# Altium integrated library WE-PD4_rev15a.intlib: 96 symbols
Pins are listed as number, name and electrical type; pins without a type are passive.

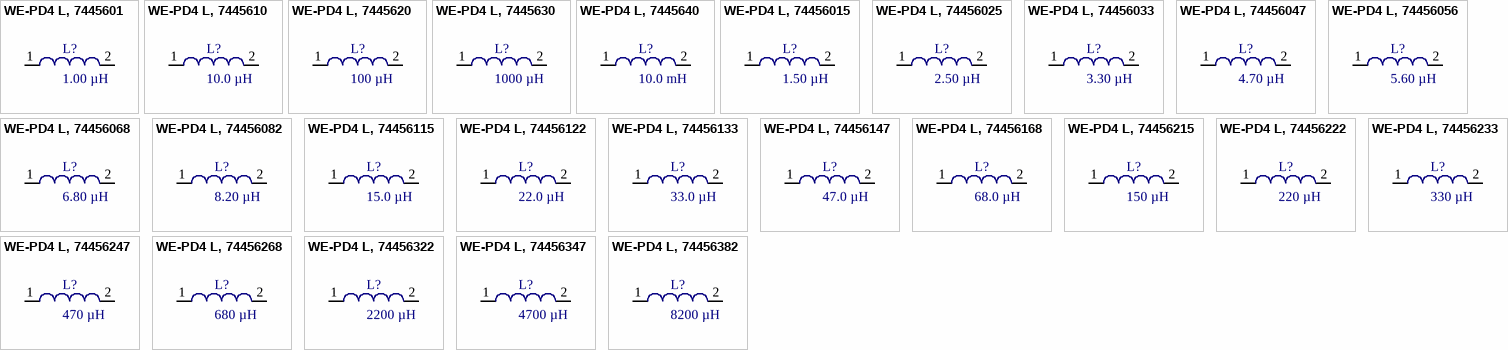
[diagram p0: symbols WE-PD4 L, 7445601 to WE-PD4 L, 74456382]

## WE-PD4 L, 7445601
designator L?, comment 1.00 µH
SMD-Power Inductor WE-PD4, L=1.00 µH; partNo: 7445601; Manufacturer: Würth Elektronik eiSos GmbH & Co.KG; Inductance: 1.00 µH; ComponentLink1Description: Manufacturer; ComponentLink1URL: http://www.we-online.de; Created by: Christin Zierenner; Created Date: July 2009; ComponentLink2Description: Datasheet; ComponentLink2URL: http://www.we-online.de/katalog/media/pdf/7445601.pdf
footprint WE-PD4 L (SMD Inductor, 2-Leads, Body 12,7x10,0mm)
pins: 1, 2

## WE-PD4 L, 7445610
designator L?, comment 10.0 µH
SMD-Power Inductor WE-PD4, L=10.0 µH; partNo: 7445610; Manufacturer: Würth Elektronik eiSos GmbH & Co.KG; Inductance: 10.0 µH; ComponentLink1Description: Manufacturer; ComponentLink1URL: http://www.we-online.de; Created by: Christin Zierenner; Created Date: July 2009; ComponentLink2Description: Datasheet; ComponentLink2URL: http://www.we-online.de/katalog/media/pdf/7445610.pdf
footprint WE-PD4 L (SMD Inductor, 2-Leads, Body 12,7x10,0mm)
pins: 1, 2

## WE-PD4 L, 7445620
designator L?, comment 100 µH
SMD-Power Inductor WE-PD4, L=100 µH; partNo: 7445620; Manufacturer: Würth Elektronik eiSos GmbH & Co.KG; Inductance: 100 µH; ComponentLink1Description: Manufacturer; ComponentLink1URL: http://www.we-online.de; Created by: Christin Zierenner; Created Date: July 2009; ComponentLink2Description: Datasheet; ComponentLink2URL: http://www.we-online.de/katalog/media/pdf/7445620.pdf
footprint WE-PD4 L (SMD Inductor, 2-Leads, Body 12,7x10,0mm)
pins: 1, 2

## WE-PD4 L, 7445630
designator L?, comment 1000 µH
SMD-Power Inductor WE-PD4, L=1000 µH; partNo: 7445630; Manufacturer: Würth Elektronik eiSos GmbH & Co.KG; Inductance: 1000 µH; ComponentLink1Description: Manufacturer; ComponentLink1URL: http://www.we-online.de; Created by: Christin Zierenner; Created Date: July 2009; ComponentLink2Description: Datasheet; ComponentLink2URL: http://www.we-online.de/katalog/media/pdf/7445630.pdf
footprint WE-PD4 L (SMD Inductor, 2-Leads, Body 12,7x10,0mm)
pins: 1, 2

## WE-PD4 L, 7445640
designator L?, comment 10.0 mH
SMD-Power Inductor WE-PD4, L=10.0 mH; partNo: 7445640; Manufacturer: Würth Elektronik eiSos GmbH & Co.KG; Inductance: 10.0 mH; ComponentLink1Description: Manufacturer; ComponentLink1URL: http://www.we-online.de; Created by: Christin Zierenner; Created Date: July 2009; ComponentLink2Description: Datasheet; ComponentLink2URL: http://www.we-online.de/katalog/media/pdf/7445640.pdf
footprint WE-PD4 L (SMD Inductor, 2-Leads, Body 12,7x10,0mm)
pins: 1, 2

## WE-PD4 L, 74456015
designator L?, comment 1.50 µH
SMD-Power Inductor WE-PD4, L=1.50 µH; partNo: 74456015; Manufacturer: Würth Elektronik eiSos GmbH & Co.KG; Inductance: 1.50 µH; ComponentLink1Description: Manufacturer; ComponentLink1URL: http://www.we-online.de; Created by: Christin Zierenner; Created Date: July 2009; ComponentLink2Description: Datasheet; ComponentLink2URL: http://www.we-online.de/katalog/media/pdf/74456015.pdf
footprint WE-PD4 L (SMD Inductor, 2-Leads, Body 12,7x10,0mm)
pins: 1, 2

## WE-PD4 L, 74456025
designator L?, comment 2.50 µH
SMD-Power Inductor WE-PD4, L=2.50 µH; partNo: 74456025; Manufacturer: Würth Elektronik eiSos GmbH & Co.KG; Inductance: 2.50 µH; ComponentLink1Description: Manufacturer; ComponentLink1URL: http://www.we-online.de; Created by: Christin Zierenner; Created Date: July 2009; ComponentLink2Description: Datasheet; ComponentLink2URL: http://www.we-online.de/katalog/media/pdf/74456025.pdf
footprint WE-PD4 L (SMD Inductor, 2-Leads, Body 12,7x10,0mm)
pins: 1, 2

## WE-PD4 L, 74456033
designator L?, comment 3.30 µH
SMD-Power Inductor WE-PD4, L=3.30 µH; partNo: 74456033; Manufacturer: Würth Elektronik eiSos GmbH & Co.KG; Inductance: 3.30 µH; ComponentLink1Description: Manufacturer; ComponentLink1URL: http://www.we-online.de; Created by: Christin Zierenner; Created Date: July 2009; ComponentLink2Description: Datasheet; ComponentLink2URL: http://www.we-online.de/katalog/media/pdf/74456033.pdf
footprint WE-PD4 L (SMD Inductor, 2-Leads, Body 12,7x10,0mm)
pins: 1, 2

## WE-PD4 L, 74456047
designator L?, comment 4.70 µH
SMD-Power Inductor WE-PD4, L=4.70 µH; partNo: 74456047; Manufacturer: Würth Elektronik eiSos GmbH & Co.KG; Inductance: 4.70 µH; ComponentLink1Description: Manufacturer; ComponentLink1URL: http://www.we-online.de; Created by: Christin Zierenner; Created Date: July 2009; ComponentLink2Description: Datasheet; ComponentLink2URL: http://www.we-online.de/katalog/media/pdf/74456047.pdf
footprint WE-PD4 L (SMD Inductor, 2-Leads, Body 12,7x10,0mm)
pins: 1, 2

## WE-PD4 L, 74456056
designator L?, comment 5.60 µH
SMD-Power Inductor WE-PD4, L=5.60 µH; partNo: 74456056; Manufacturer: Würth Elektronik eiSos GmbH & Co.KG; Inductance: 5.60 µH; ComponentLink1Description: Manufacturer; ComponentLink1URL: http://www.we-online.de; Created by: Christin Zierenner; Created Date: July 2009; ComponentLink2Description: Datasheet; ComponentLink2URL: http://www.we-online.de/katalog/media/pdf/74456056.pdf
footprint WE-PD4 L (SMD Inductor, 2-Leads, Body 12,7x10,0mm)
pins: 1, 2

## WE-PD4 L, 74456068
designator L?, comment 6.80 µH
SMD-Power Inductor WE-PD4, L=6.80 µH; partNo: 74456068; Manufacturer: Würth Elektronik eiSos GmbH & Co.KG; Inductance: 6.80 µH; ComponentLink1Description: Manufacturer; ComponentLink1URL: http://www.we-online.de; Created by: Christin Zierenner; Created Date: July 2009; ComponentLink2Description: Datasheet; ComponentLink2URL: http://www.we-online.de/katalog/media/pdf/74456068.pdf
footprint WE-PD4 L (SMD Inductor, 2-Leads, Body 12,7x10,0mm)
pins: 1, 2

## WE-PD4 L, 74456082
designator L?, comment 8.20 µH
SMD-Power Inductor WE-PD4, L=8.20 µH; partNo: 74456082; Manufacturer: Würth Elektronik eiSos GmbH & Co.KG; Inductance: 8.20 µH; ComponentLink1Description: Manufacturer; ComponentLink1URL: http://www.we-online.de; Created by: Christin Zierenner; Created Date: July 2009; ComponentLink2Description: Datasheet; ComponentLink2URL: http://www.we-online.de/katalog/media/pdf/74456082.pdf
footprint WE-PD4 L (SMD Inductor, 2-Leads, Body 12,7x10,0mm)
pins: 1, 2

## WE-PD4 L, 74456115
designator L?, comment 15.0 µH
SMD-Power Inductor WE-PD4, L=15.0 µH; partNo: 74456115; Manufacturer: Würth Elektronik eiSos GmbH & Co.KG; Inductance: 15.0 µH; ComponentLink1Description: Manufacturer; ComponentLink1URL: http://www.we-online.de; Created by: Christin Zierenner; Created Date: July 2009; ComponentLink2Description: Datasheet; ComponentLink2URL: http://www.we-online.de/katalog/media/pdf/74456115.pdf
footprint WE-PD4 L (SMD Inductor, 2-Leads, Body 12,7x10,0mm)
pins: 1, 2

## WE-PD4 L, 74456122
designator L?, comment 22.0 µH
SMD-Power Inductor WE-PD4, L=22.0 µH; partNo: 74456122; Manufacturer: Würth Elektronik eiSos GmbH & Co.KG; Inductance: 22.0 µH; ComponentLink1Description: Manufacturer; ComponentLink1URL: http://www.we-online.de; Created by: Christin Zierenner; Created Date: July 2009; ComponentLink2Description: Datasheet; ComponentLink2URL: http://www.we-online.de/katalog/media/pdf/74456122.pdf
footprint WE-PD4 L (SMD Inductor, 2-Leads, Body 12,7x10,0mm)
pins: 1, 2

## WE-PD4 L, 74456133
designator L?, comment 33.0 µH
SMD-Power Inductor WE-PD4, L=33.0 µH; partNo: 74456133; Manufacturer: Würth Elektronik eiSos GmbH & Co.KG; Inductance: 33.0 µH; ComponentLink1Description: Manufacturer; ComponentLink1URL: http://www.we-online.de; Created by: Christin Zierenner; Created Date: July 2009; ComponentLink2Description: Datasheet; ComponentLink2URL: http://www.we-online.de/katalog/media/pdf/74456133.pdf
footprint WE-PD4 L (SMD Inductor, 2-Leads, Body 12,7x10,0mm)
pins: 1, 2

## WE-PD4 L, 74456147
designator L?, comment 47.0 µH
SMD-Power Inductor WE-PD4, L=47.0 µH; partNo: 74456147; Manufacturer: Würth Elektronik eiSos GmbH & Co.KG; Inductance: 47.0 µH; ComponentLink1Description: Manufacturer; ComponentLink1URL: http://www.we-online.de; Created by: Christin Zierenner; Created Date: July 2009; ComponentLink2Description: Datasheet; ComponentLink2URL: http://www.we-online.de/katalog/media/pdf/74456147.pdf
footprint WE-PD4 L (SMD Inductor, 2-Leads, Body 12,7x10,0mm)
pins: 1, 2

## WE-PD4 L, 74456168
designator L?, comment 68.0 µH
SMD-Power Inductor WE-PD4, L=68.0 µH; partNo: 74456168; Manufacturer: Würth Elektronik eiSos GmbH & Co.KG; Inductance: 68.0 µH; ComponentLink1Description: Manufacturer; ComponentLink1URL: http://www.we-online.de; Created by: Christin Zierenner; Created Date: July 2009; ComponentLink2Description: Datasheet; ComponentLink2URL: http://www.we-online.de/katalog/media/pdf/74456168.pdf
footprint WE-PD4 L (SMD Inductor, 2-Leads, Body 12,7x10,0mm)
pins: 1, 2

## WE-PD4 L, 74456215
designator L?, comment 150 µH
SMD-Power Inductor WE-PD4, L=150 µH; partNo: 74456215; Manufacturer: Würth Elektronik eiSos GmbH & Co.KG; Inductance: 150 µH; ComponentLink1Description: Manufacturer; ComponentLink1URL: http://www.we-online.de; Created by: Christin Zierenner; Created Date: July 2009; ComponentLink2Description: Datasheet; ComponentLink2URL: http://www.we-online.de/katalog/media/pdf/74456215.pdf
footprint WE-PD4 L (SMD Inductor, 2-Leads, Body 12,7x10,0mm)
pins: 1, 2

## WE-PD4 L, 74456222
designator L?, comment 220 µH
SMD-Power Inductor WE-PD4, L=220 µH; partNo: 74456222; Manufacturer: Würth Elektronik eiSos GmbH & Co.KG; Inductance: 220 µH; ComponentLink1Description: Manufacturer; ComponentLink1URL: http://www.we-online.de; Created by: Christin Zierenner; Created Date: July 2009; ComponentLink2Description: Datasheet; ComponentLink2URL: http://www.we-online.de/katalog/media/pdf/74456222.pdf
footprint WE-PD4 L (SMD Inductor, 2-Leads, Body 12,7x10,0mm)
pins: 1, 2

## WE-PD4 L, 74456233
designator L?, comment 330 µH
SMD-Power Inductor WE-PD4, L=330 µH; partNo: 74456233; Manufacturer: Würth Elektronik eiSos GmbH & Co.KG; Inductance: 330 µH; ComponentLink1Description: Manufacturer; ComponentLink1URL: http://www.we-online.de; Created by: Christin Zierenner; Created Date: July 2009; ComponentLink2Description: Datasheet; ComponentLink2URL: http://www.we-online.de/katalog/media/pdf/74456233.pdf
footprint WE-PD4 L (SMD Inductor, 2-Leads, Body 12,7x10,0mm)
pins: 1, 2

## WE-PD4 L, 74456247
designator L?, comment 470 µH
SMD-Power Inductor WE-PD4, L=470 µH; partNo: 74456247; Manufacturer: Würth Elektronik eiSos GmbH & Co.KG; Inductance: 470 µH; ComponentLink1Description: Manufacturer; ComponentLink1URL: http://www.we-online.de; Created by: Christin Zierenner; Created Date: July 2009; ComponentLink2Description: Datasheet; ComponentLink2URL: http://www.we-online.de/katalog/media/pdf/74456247.pdf
footprint WE-PD4 L (SMD Inductor, 2-Leads, Body 12,7x10,0mm)
pins: 1, 2

## WE-PD4 L, 74456268
designator L?, comment 680 µH
SMD-Power Inductor WE-PD4, L=680 µH; partNo: 74456268; Manufacturer: Würth Elektronik eiSos GmbH & Co.KG; Inductance: 680 µH; ComponentLink1Description: Manufacturer; ComponentLink1URL: http://www.we-online.de; Created by: Christin Zierenner; Created Date: July 2009; ComponentLink2Description: Datasheet; ComponentLink2URL: http://www.we-online.de/katalog/media/pdf/74456268.pdf
footprint WE-PD4 L (SMD Inductor, 2-Leads, Body 12,7x10,0mm)
pins: 1, 2

## WE-PD4 L, 74456322
designator L?, comment 2200 µH
SMD-Power Inductor WE-PD4, L=2200 µH; partNo: 74456322; Manufacturer: Würth Elektronik eiSos GmbH & Co.KG; Inductance: 2200 µH; ComponentLink1Description: Manufacturer; ComponentLink1URL: http://www.we-online.de; Created by: Christin Zierenner; Created Date: July 2009; ComponentLink2Description: Datasheet; ComponentLink2URL: http://www.we-online.de/katalog/media/pdf/74456322.pdf
footprint WE-PD4 L (SMD Inductor, 2-Leads, Body 12,7x10,0mm)
pins: 1, 2

## WE-PD4 L, 74456347
designator L?, comment 4700 µH
SMD-Power Inductor WE-PD4, L=4700 µH; partNo: 74456347; Manufacturer: Würth Elektronik eiSos GmbH & Co.KG; Inductance: 4700 µH; ComponentLink1Description: Manufacturer; ComponentLink1URL: http://www.we-online.de; Created by: Christin Zierenner; Created Date: July 2009; ComponentLink2Description: Datasheet; ComponentLink2URL: http://www.we-online.de/katalog/media/pdf/74456347.pdf
footprint WE-PD4 L (SMD Inductor, 2-Leads, Body 12,7x10,0mm)
pins: 1, 2

## WE-PD4 L, 74456382
designator L?, comment 8200 µH
SMD-Power Inductor WE-PD4, L=8200 µH; partNo: 74456382; Manufacturer: Würth Elektronik eiSos GmbH & Co.KG; Inductance: 8200 µH; ComponentLink1Description: Manufacturer; ComponentLink1URL: http://www.we-online.de; Created by: Christin Zierenner; Created Date: July 2009; ComponentLink2Description: Datasheet; ComponentLink2URL: http://www.we-online.de/katalog/media/pdf/74456382.pdf
footprint WE-PD4 L (SMD Inductor, 2-Leads, Body 12,7x10,0mm)
pins: 1, 2


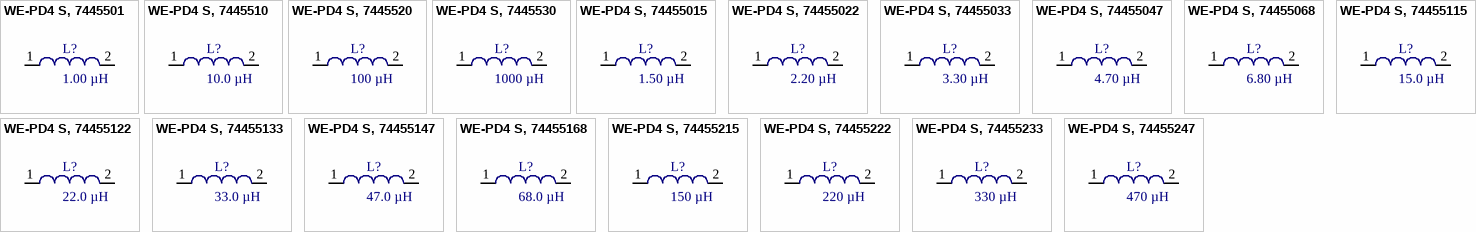
[diagram p1: symbols WE-PD4 S, 7445501 to WE-PD4 S, 74455247]

## WE-PD4 S, 7445501
designator L?, comment 1.00 µH
SMD-Power Inductor WE-PD4, L=1.00 µH; partNo: 7445501; Manufacturer: Würth Elektronik eiSos GmbH & Co.KG; Inductance: 1.00 µH; ComponentLink1Description: Manufacturer; ComponentLink1URL: http://www.we-online.de; Created by: Christin Zierenner; Created Date: July 2009; ComponentLink2Description: Datasheet; ComponentLink2URL: http://www.we-online.de/katalog/media/pdf/7445501.pdf
footprint WE-PD4 S (SMD Inductor, 2-Leads, Body 6,6x4,4mm,)
pins: 1, 2

## WE-PD4 S, 7445510
designator L?, comment 10.0 µH
SMD-Power Inductor WE-PD4, L=10.0 µH; partNo: 7445510; Manufacturer: Würth Elektronik eiSos GmbH & Co.KG; Inductance: 10.0 µH; ComponentLink1Description: Manufacturer; ComponentLink1URL: http://www.we-online.de; Created by: Christin Zierenner; Created Date: July 2009; ComponentLink2Description: Datasheet; ComponentLink2URL: http://www.we-online.de/katalog/media/pdf/7445510.pdf
footprint WE-PD4 S (SMD Inductor, 2-Leads, Body 6,6x4,4mm,)
pins: 1, 2

## WE-PD4 S, 7445520
designator L?, comment 100 µH
SMD-Power Inductor WE-PD4, L=100 µH; partNo: 7445520; Manufacturer: Würth Elektronik eiSos GmbH & Co.KG; Inductance: 100 µH; ComponentLink1Description: Manufacturer; ComponentLink1URL: http://www.we-online.de; Created by: Christin Zierenner; Created Date: July 2009; ComponentLink2Description: Datasheet; ComponentLink2URL: http://www.we-online.de/katalog/media/pdf/7445520.pdf
footprint WE-PD4 S (SMD Inductor, 2-Leads, Body 6,6x4,4mm,)
pins: 1, 2

## WE-PD4 S, 7445530
designator L?, comment 1000 µH
SMD-Power Inductor WE-PD4, L=1000 µH; partNo: 7445530; Manufacturer: Würth Elektronik eiSos GmbH & Co.KG; Inductance: 1000 µH; ComponentLink1Description: Manufacturer; ComponentLink1URL: http://www.we-online.de; Created by: Christin Zierenner; Created Date: July 2009; ComponentLink2Description: Datasheet; ComponentLink2URL: http://www.we-online.de/katalog/media/pdf/7445530.pdf
footprint WE-PD4 S (SMD Inductor, 2-Leads, Body 6,6x4,4mm,)
pins: 1, 2

## WE-PD4 S, 74455015
designator L?, comment 1.50 µH
SMD-Power Inductor WE-PD4, L=1.50 µH; partNo: 74455015; Manufacturer: Würth Elektronik eiSos GmbH & Co.KG; Inductance: 1.50 µH; ComponentLink1Description: Manufacturer; ComponentLink1URL: http://www.we-online.de; Created by: Christin Zierenner; Created Date: July 2009; ComponentLink2Description: Datasheet; ComponentLink2URL: http://www.we-online.de/katalog/media/pdf/74455015.pdf
footprint WE-PD4 S (SMD Inductor, 2-Leads, Body 6,6x4,4mm,)
pins: 1, 2

## WE-PD4 S, 74455022
designator L?, comment 2.20 µH
SMD-Power Inductor WE-PD4, L=2.20 µH; partNo: 74455022; Manufacturer: Würth Elektronik eiSos GmbH & Co.KG; Inductance: 2.20 µH; ComponentLink1Description: Manufacturer; ComponentLink1URL: http://www.we-online.de; Created by: Christin Zierenner; Created Date: July 2009; ComponentLink2Description: Datasheet; ComponentLink2URL: http://www.we-online.de/katalog/media/pdf/74455022.pdf
footprint WE-PD4 S (SMD Inductor, 2-Leads, Body 6,6x4,4mm,)
pins: 1, 2

## WE-PD4 S, 74455033
designator L?, comment 3.30 µH
SMD-Power Inductor WE-PD4, L=3.30 µH; partNo: 74455033; Manufacturer: Würth Elektronik eiSos GmbH & Co.KG; Inductance: 3.30 µH; ComponentLink1Description: Manufacturer; ComponentLink1URL: http://www.we-online.de; Created by: Christin Zierenner; Created Date: July 2009; ComponentLink2Description: Datasheet; ComponentLink2URL: http://www.we-online.de/katalog/media/pdf/74455033.pdf
footprint WE-PD4 S (SMD Inductor, 2-Leads, Body 6,6x4,4mm,)
pins: 1, 2

## WE-PD4 S, 74455047
designator L?, comment 4.70 µH
SMD-Power Inductor WE-PD4, L=4.70 µH; partNo: 74455047; Manufacturer: Würth Elektronik eiSos GmbH & Co.KG; Inductance: 4.70 µH; ComponentLink1Description: Manufacturer; ComponentLink1URL: http://www.we-online.de; Created by: Christin Zierenner; Created Date: July 2009; ComponentLink2Description: Datasheet; ComponentLink2URL: http://www.we-online.de/katalog/media/pdf/74455047.pdf
footprint WE-PD4 S (SMD Inductor, 2-Leads, Body 6,6x4,4mm,)
pins: 1, 2

## WE-PD4 S, 74455068
designator L?, comment 6.80 µH
SMD-Power Inductor WE-PD4, L=6.80 µH; partNo: 74455068; Manufacturer: Würth Elektronik eiSos GmbH & Co.KG; Inductance: 6.80 µH; ComponentLink1Description: Manufacturer; ComponentLink1URL: http://www.we-online.de; Created by: Christin Zierenner; Created Date: July 2009; ComponentLink2Description: Datasheet; ComponentLink2URL: http://www.we-online.de/katalog/media/pdf/74455068.pdf
footprint WE-PD4 S (SMD Inductor, 2-Leads, Body 6,6x4,4mm,)
pins: 1, 2

## WE-PD4 S, 74455115
designator L?, comment 15.0 µH
SMD-Power Inductor WE-PD4, L=15.0 µH; partNo: 74455115; Manufacturer: Würth Elektronik eiSos GmbH & Co.KG; Inductance: 15.0 µH; ComponentLink1Description: Manufacturer; ComponentLink1URL: http://www.we-online.de; Created by: Christin Zierenner; Created Date: July 2009; ComponentLink2Description: Datasheet; ComponentLink2URL: http://www.we-online.de/katalog/media/pdf/74455115.pdf
footprint WE-PD4 S (SMD Inductor, 2-Leads, Body 6,6x4,4mm,)
pins: 1, 2

## WE-PD4 S, 74455122
designator L?, comment 22.0 µH
SMD-Power Inductor WE-PD4, L=22.0 µH; partNo: 74455122; Manufacturer: Würth Elektronik eiSos GmbH & Co.KG; Inductance: 22.0 µH; ComponentLink1Description: Manufacturer; ComponentLink1URL: http://www.we-online.de; Created by: Christin Zierenner; Created Date: July 2009; ComponentLink2Description: Datasheet; ComponentLink2URL: http://www.we-online.de/katalog/media/pdf/74455122.pdf
footprint WE-PD4 S (SMD Inductor, 2-Leads, Body 6,6x4,4mm,)
pins: 1, 2

## WE-PD4 S, 74455133
designator L?, comment 33.0 µH
SMD-Power Inductor WE-PD4, L=33.0 µH; partNo: 74455133; Manufacturer: Würth Elektronik eiSos GmbH & Co.KG; Inductance: 33.0 µH; ComponentLink1Description: Manufacturer; ComponentLink1URL: http://www.we-online.de; Created by: Christin Zierenner; Created Date: July 2009; ComponentLink2Description: Datasheet; ComponentLink2URL: http://www.we-online.de/katalog/media/pdf/74455133.pdf
footprint WE-PD4 S (SMD Inductor, 2-Leads, Body 6,6x4,4mm,)
pins: 1, 2

## WE-PD4 S, 74455147
designator L?, comment 47.0 µH
SMD-Power Inductor WE-PD4, L=47.0 µH; partNo: 74455147; Manufacturer: Würth Elektronik eiSos GmbH & Co.KG; Inductance: 47.0 µH; ComponentLink1Description: Manufacturer; ComponentLink1URL: http://www.we-online.de; Created by: Christin Zierenner; Created Date: July 2009; ComponentLink2Description: Datasheet; ComponentLink2URL: http://www.we-online.de/katalog/media/pdf/74455147.pdf
footprint WE-PD4 S (SMD Inductor, 2-Leads, Body 6,6x4,4mm,)
pins: 1, 2

## WE-PD4 S, 74455168
designator L?, comment 68.0 µH
SMD-Power Inductor WE-PD4, L=68.0 µH; partNo: 74455168; Manufacturer: Würth Elektronik eiSos GmbH & Co.KG; Inductance: 68.0 µH; ComponentLink1Description: Manufacturer; ComponentLink1URL: http://www.we-online.de; Created by: Christin Zierenner; Created Date: July 2009; ComponentLink2Description: Datasheet; ComponentLink2URL: http://www.we-online.de/katalog/media/pdf/74455168.pdf
footprint WE-PD4 S (SMD Inductor, 2-Leads, Body 6,6x4,4mm,)
pins: 1, 2

## WE-PD4 S, 74455215
designator L?, comment 150 µH
SMD-Power Inductor WE-PD4, L=150 µH; partNo: 74455215; Manufacturer: Würth Elektronik eiSos GmbH & Co.KG; Inductance: 150 µH; ComponentLink1Description: Manufacturer; ComponentLink1URL: http://www.we-online.de; Created by: Christin Zierenner; Created Date: July 2009; ComponentLink2Description: Datasheet; ComponentLink2URL: http://www.we-online.de/katalog/media/pdf/74455215.pdf
footprint WE-PD4 S (SMD Inductor, 2-Leads, Body 6,6x4,4mm,)
pins: 1, 2

## WE-PD4 S, 74455222
designator L?, comment 220 µH
SMD-Power Inductor WE-PD4, L=220 µH; partNo: 74455222; Manufacturer: Würth Elektronik eiSos GmbH & Co.KG; Inductance: 220 µH; ComponentLink1Description: Manufacturer; ComponentLink1URL: http://www.we-online.de; Created by: Christin Zierenner; Created Date: July 2009; ComponentLink2Description: Datasheet; ComponentLink2URL: http://www.we-online.de/katalog/media/pdf/74455222.pdf
footprint WE-PD4 S (SMD Inductor, 2-Leads, Body 6,6x4,4mm,)
pins: 1, 2

## WE-PD4 S, 74455233
designator L?, comment 330 µH
SMD-Power Inductor WE-PD4, L=330 µH; partNo: 74455233; Manufacturer: Würth Elektronik eiSos GmbH & Co.KG; Inductance: 330 µH; ComponentLink1Description: Manufacturer; ComponentLink1URL: http://www.we-online.de; Created by: Christin Zierenner; Created Date: July 2009; ComponentLink2Description: Datasheet; ComponentLink2URL: http://www.we-online.de/katalog/media/pdf/74455233.pdf
footprint WE-PD4 S (SMD Inductor, 2-Leads, Body 6,6x4,4mm,)
pins: 1, 2

## WE-PD4 S, 74455247
designator L?, comment 470 µH
SMD-Power Inductor WE-PD4, L=470 µH; partNo: 74455247; Manufacturer: Würth Elektronik eiSos GmbH & Co.KG; Inductance: 470 µH; ComponentLink1Description: Manufacturer; ComponentLink1URL: http://www.we-online.de; Created by: Christin Zierenner; Created Date: July 2009; ComponentLink2Description: Datasheet; ComponentLink2URL: http://www.we-online.de/katalog/media/pdf/74455247.pdf
footprint WE-PD4 S (SMD Inductor, 2-Leads, Body 6,6x4,4mm,)
pins: 1, 2


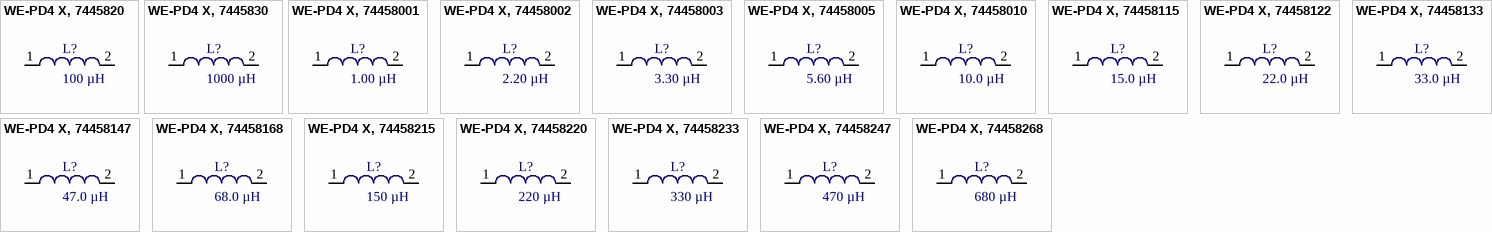
[diagram p2: symbols WE-PD4 X, 7445820 to WE-PD4 X, 74458268]

## WE-PD4 X, 7445820
designator L?, comment 100 µH
SMD-Power Inductor WE-PD4, L=100 µH; partNo: 7445820; Manufacturer: Würth Elektronik eiSos GmbH & Co.KG; Inductance: 100 µH; ComponentLink1Description: Manufacturer; ComponentLink1URL: http://www.we-online.de; Created by: Christin Zierenner; Created Date: June 2009; ComponentLink2Description: Datasheet; ComponentLink2URL: http://www.we-online.de/katalog/media/pdf/7445820.pdf
footprint WE-PD4 X (Inductor, 2-Leads, Body 18,5x15,2mm)
pins: 1, 2

## WE-PD4 X, 7445830
designator L?, comment 1000 µH
SMD-Power Inductor WE-PD4, L=1000 µH; partNo: 7445830; Manufacturer: Würth Elektronik eiSos GmbH & Co.KG; Inductance: 1000 µH; ComponentLink1Description: Manufacturer; ComponentLink1URL: http://www.we-online.de; Created by: Christin Zierenner; Created Date: June 2009; ComponentLink2Description: Datasheet; ComponentLink2URL: http://www.we-online.de/katalog/media/pdf/7445830.pdf
footprint WE-PD4 X (Inductor, 2-Leads, Body 18,5x15,2mm)
pins: 1, 2

## WE-PD4 X, 74458001
designator L?, comment 1.00 µH
SMD-Power Inductor WE-PD4, L=1.00 µH; partNo: 74458001; Manufacturer: Würth Elektronik eiSos GmbH & Co.KG; Inductance: 1.00 µH; ComponentLink1Description: Manufacturer; ComponentLink1URL: http://www.we-online.de; Created by: Christin Zierenner; Created Date: June 2009; ComponentLink2Description: Datasheet; ComponentLink2URL: http://www.we-online.de/katalog/media/pdf/74458001.pdf
footprint WE-PD4 X (Inductor, 2-Leads, Body 18,5x15,2mm)
pins: 1, 2

## WE-PD4 X, 74458002
designator L?, comment 2.20 µH
SMD-Power Inductor WE-PD4, L=2.20 µH; partNo: 74458002; Manufacturer: Würth Elektronik eiSos GmbH & Co.KG; Inductance: 2.20 µH; ComponentLink1Description: Manufacturer; ComponentLink1URL: http://www.we-online.de; Created by: Christin Zierenner; Created Date: June 2009; ComponentLink2Description: Datasheet; ComponentLink2URL: http://www.we-online.de/katalog/media/pdf/74458002.pdf
footprint WE-PD4 X (Inductor, 2-Leads, Body 18,5x15,2mm)
pins: 1, 2

## WE-PD4 X, 74458003
designator L?, comment 3.30 µH
SMD-Power Inductor WE-PD4, L=3.30 µH; partNo: 74458003; Manufacturer: Würth Elektronik eiSos GmbH & Co.KG; Inductance: 3.30 µH; ComponentLink1Description: Manufacturer; ComponentLink1URL: http://www.we-online.de; Created by: Christin Zierenner; Created Date: June 2009; ComponentLink2Description: Datasheet; ComponentLink2URL: http://www.we-online.de/katalog/media/pdf/74458003.pdf
footprint WE-PD4 X (Inductor, 2-Leads, Body 18,5x15,2mm)
pins: 1, 2

## WE-PD4 X, 74458005
designator L?, comment 5.60 µH
SMD-Power Inductor WE-PD4, L=5.60 µH; partNo: 74458005; Manufacturer: Würth Elektronik eiSos GmbH & Co.KG; Inductance: 5.60 µH; ComponentLink1Description: Manufacturer; ComponentLink1URL: http://www.we-online.de; Created by: Christin Zierenner; Created Date: June 2009; ComponentLink2Description: Datasheet; ComponentLink2URL: http://www.we-online.de/katalog/media/pdf/74458005.pdf
footprint WE-PD4 X (Inductor, 2-Leads, Body 18,5x15,2mm)
pins: 1, 2

## WE-PD4 X, 74458010
designator L?, comment 10.0 µH
SMD-Power Inductor WE-PD4, L=10.0 µH; partNo: 74458010; Manufacturer: Würth Elektronik eiSos GmbH & Co.KG; Inductance: 10.0 µH; ComponentLink1Description: Manufacturer; ComponentLink1URL: http://www.we-online.de; Created by: Christin Zierenner; Created Date: June 2009; ComponentLink2Description: Datasheet; ComponentLink2URL: http://www.we-online.de/katalog/media/pdf/74458010.pdf
footprint WE-PD4 X (Inductor, 2-Leads, Body 18,5x15,2mm)
pins: 1, 2

## WE-PD4 X, 74458115
designator L?, comment 15.0 µH
SMD-Power Inductor WE-PD4, L=15.0 µH; partNo: 74458115; Manufacturer: Würth Elektronik eiSos GmbH & Co.KG; Inductance: 15.0 µH; ComponentLink1Description: Manufacturer; ComponentLink1URL: http://www.we-online.de; Created by: Christin Zierenner; Created Date: June 2009; ComponentLink2Description: Datasheet; ComponentLink2URL: http://www.we-online.de/katalog/media/pdf/74458115.pdf
footprint WE-PD4 X (Inductor, 2-Leads, Body 18,5x15,2mm)
pins: 1, 2

## WE-PD4 X, 74458122
designator L?, comment 22.0 µH
SMD-Power Inductor WE-PD4, L=22.0 µH; partNo: 74458122; Manufacturer: Würth Elektronik eiSos GmbH & Co.KG; Inductance: 22.0 µH; ComponentLink1Description: Manufacturer; ComponentLink1URL: http://www.we-online.de; Created by: Christin Zierenner; Created Date: June 2009; ComponentLink2Description: Datasheet; ComponentLink2URL: http://www.we-online.de/katalog/media/pdf/74458122.pdf
footprint WE-PD4 X (Inductor, 2-Leads, Body 18,5x15,2mm)
pins: 1, 2

## WE-PD4 X, 74458133
designator L?, comment 33.0 µH
SMD-Power Inductor WE-PD4, L=33.0 µH; partNo: 74458133; Manufacturer: Würth Elektronik eiSos GmbH & Co.KG; Inductance: 33.0 µH; ComponentLink1Description: Manufacturer; ComponentLink1URL: http://www.we-online.de; Created by: Christin Zierenner; Created Date: June 2009; ComponentLink2Description: Datasheet; ComponentLink2URL: http://www.we-online.de/katalog/media/pdf/74458133.pdf
footprint WE-PD4 X (Inductor, 2-Leads, Body 18,5x15,2mm)
pins: 1, 2

## WE-PD4 X, 74458147
designator L?, comment 47.0 µH
SMD-Power Inductor WE-PD4, L=47.0 µH; partNo: 74458147; Manufacturer: Würth Elektronik eiSos GmbH & Co.KG; Inductance: 47.0 µH; ComponentLink1Description: Manufacturer; ComponentLink1URL: http://www.we-online.de; Created by: Christin Zierenner; Created Date: June 2009; ComponentLink2Description: Datasheet; ComponentLink2URL: http://www.we-online.de/katalog/media/pdf/74458147.pdf
footprint WE-PD4 X (Inductor, 2-Leads, Body 18,5x15,2mm)
pins: 1, 2

## WE-PD4 X, 74458168
designator L?, comment 68.0 µH
SMD-Power Inductor WE-PD4, L=68.0 µH; partNo: 74458168; Manufacturer: Würth Elektronik eiSos GmbH & Co.KG; Inductance: 68.0 µH; ComponentLink1Description: Manufacturer; ComponentLink1URL: http://www.we-online.de; Created by: Christin Zierenner; Created Date: June 2009; ComponentLink2Description: Datasheet; ComponentLink2URL: http://www.we-online.de/katalog/media/pdf/74458168.pdf
footprint WE-PD4 X (Inductor, 2-Leads, Body 18,5x15,2mm)
pins: 1, 2

## WE-PD4 X, 74458215
designator L?, comment 150 µH
SMD-Power Inductor WE-PD4, L=150 µH; partNo: 74458215; Manufacturer: Würth Elektronik eiSos GmbH & Co.KG; Inductance: 150 µH; ComponentLink1Description: Manufacturer; ComponentLink1URL: http://www.we-online.de; Created by: Christin Zierenner; Created Date: June 2009; ComponentLink2Description: Datasheet; ComponentLink2URL: http://www.we-online.de/katalog/media/pdf/74458215.pdf
footprint WE-PD4 X (Inductor, 2-Leads, Body 18,5x15,2mm)
pins: 1, 2

## WE-PD4 X, 74458220
designator L?, comment 220 µH
SMD-Power Inductor WE-PD4, L=220 µH; partNo: 74458220; Manufacturer: Würth Elektronik eiSos GmbH & Co.KG; Inductance: 220 µH; ComponentLink1Description: Manufacturer; ComponentLink1URL: http://www.we-online.de; Created by: Christin Zierenner; Created Date: June 2009; ComponentLink2Description: Datasheet; ComponentLink2URL: http://www.we-online.de/katalog/media/pdf/74458220.pdf
footprint WE-PD4 X (Inductor, 2-Leads, Body 18,5x15,2mm)
pins: 1, 2

## WE-PD4 X, 74458233
designator L?, comment 330 µH
SMD-Power Inductor WE-PD4, L=330 µH; partNo: 74458233; Manufacturer: Würth Elektronik eiSos GmbH & Co.KG; Inductance: 330 µH; ComponentLink1Description: Manufacturer; ComponentLink1URL: http://www.we-online.de; Created by: Christin Zierenner; Created Date: June 2009; ComponentLink2Description: Datasheet; ComponentLink2URL: http://www.we-online.de/katalog/media/pdf/74458233.pdf
footprint WE-PD4 X (Inductor, 2-Leads, Body 18,5x15,2mm)
pins: 1, 2

## WE-PD4 X, 74458247
designator L?, comment 470 µH
SMD-Power Inductor WE-PD4, L=470 µH; partNo: 74458247; Manufacturer: Würth Elektronik eiSos GmbH & Co.KG; Inductance: 470 µH; ComponentLink1Description: Manufacturer; ComponentLink1URL: http://www.we-online.de; Created by: Christin Zierenner; Created Date: June 2009; ComponentLink2Description: Datasheet; ComponentLink2URL: http://www.we-online.de/katalog/media/pdf/74458247.pdf
footprint WE-PD4 X (Inductor, 2-Leads, Body 18,5x15,2mm)
pins: 1, 2

## WE-PD4 X, 74458268
designator L?, comment 680 µH
SMD-Power Inductor WE-PD4, L=680 µH; partNo: 74458268; Manufacturer: Würth Elektronik eiSos GmbH & Co.KG; Inductance: 680 µH; ComponentLink1Description: Manufacturer; ComponentLink1URL: http://www.we-online.de; Created by: Christin Zierenner; Created Date: June 2009; ComponentLink2Description: Datasheet; ComponentLink2URL: http://www.we-online.de/katalog/media/pdf/74458268.pdf
footprint WE-PD4 X (Inductor, 2-Leads, Body 18,5x15,2mm)
pins: 1, 2


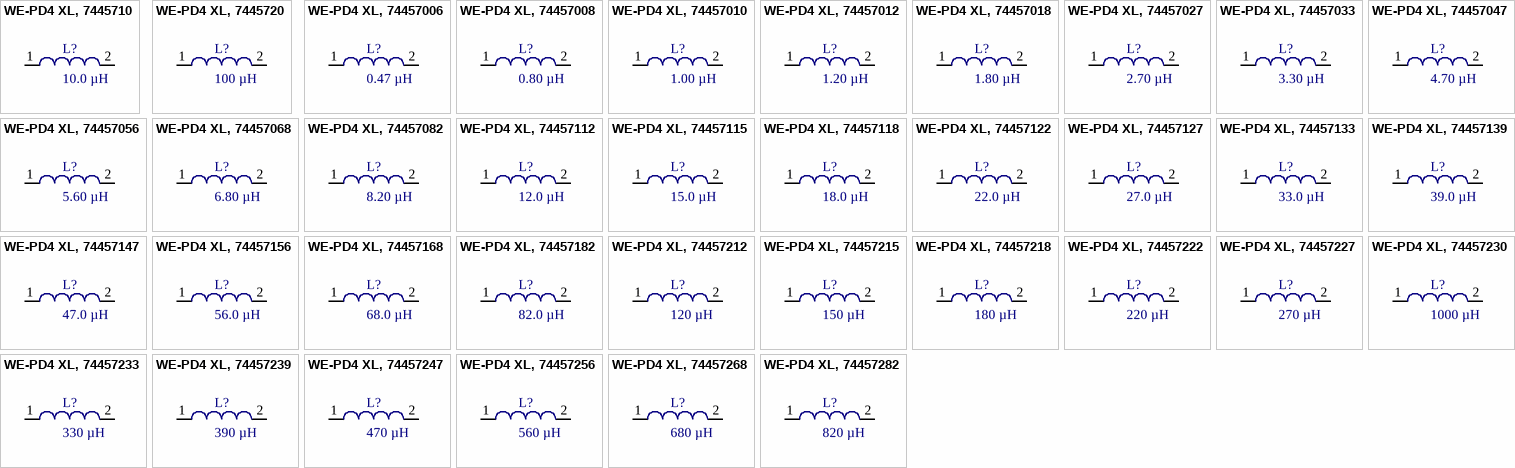
[diagram p3: symbols WE-PD4 XL, 7445710 to WE-PD4 XL, 74457282]

## WE-PD4 XL, 7445710
designator L?, comment 10.0 µH
SMD-Power Inductor WE-PD4, L=10.0 µH; partNo: 7445710; Manufacturer: Würth Elektronik eiSos GmbH & Co.KG; Inductance: 10.0 µH; ComponentLink1Description: Manufacturer; ComponentLink1URL: http://www.we-online.de; Created by: Christin Zierenner; Created Date: June 2009; ComponentLink2Description: Datasheet; ComponentLink2URL: http://www.we-online.de/katalog/media/pdf/7445710.pdf
footprint WE-PD4 XL (Inductor, 2-Leads, Body 22,0x15,0mm)
pins: 1, 2

## WE-PD4 XL, 7445720
designator L?, comment 100 µH
SMD-Power Inductor WE-PD4, L=100 µH; partNo: 7445720; Manufacturer: Würth Elektronik eiSos GmbH & Co.KG; Inductance: 100 µH; ComponentLink1Description: Manufacturer; ComponentLink1URL: http://www.we-online.de; Created by: Christin Zierenner; Created Date: June 2009; ComponentLink2Description: Datasheet; ComponentLink2URL: http://www.we-online.de/katalog/media/pdf/7445720.pdf
footprint WE-PD4 XL (Inductor, 2-Leads, Body 22,0x15,0mm)
pins: 1, 2

## WE-PD4 XL, 74457006
designator L?, comment 0.47 µH
SMD-Power Inductor WE-PD4, L=0.47 µH; partNo: 74457006; Manufacturer: Würth Elektronik eiSos GmbH & Co.KG; Inductance: 0.47 µH; ComponentLink1Description: Manufacturer; ComponentLink1URL: http://www.we-online.de; Created by: Christin Zierenner; Created Date: June 2009; ComponentLink2Description: Datasheet; ComponentLink2URL: http://www.we-online.de/katalog/media/pdf/74457006.pdf
footprint WE-PD4 XL (Inductor, 2-Leads, Body 22,0x15,0mm)
pins: 1, 2

## WE-PD4 XL, 74457008
designator L?, comment 0.80 µH
SMD-Power Inductor WE-PD4, L=0.80 µH; partNo: 74457008; Manufacturer: Würth Elektronik eiSos GmbH & Co.KG; Inductance: 0.80 µH; ComponentLink1Description: Manufacturer; ComponentLink1URL: http://www.we-online.de; Created by: Christin Zierenner; Created Date: June 2009; ComponentLink2Description: Datasheet; ComponentLink2URL: http://www.we-online.de/katalog/media/pdf/74457008.pdf
footprint WE-PD4 XL (Inductor, 2-Leads, Body 22,0x15,0mm)
pins: 1, 2

## WE-PD4 XL, 74457010
designator L?, comment 1.00 µH
SMD-Power Inductor WE-PD4, L=1.00 µH; partNo: 74457010; Manufacturer: Würth Elektronik eiSos GmbH & Co.KG; Inductance: 1.00 µH; ComponentLink1Description: Manufacturer; ComponentLink1URL: http://www.we-online.de; Created by: Christin Zierenner; Created Date: June 2009; ComponentLink2Description: Datasheet; ComponentLink2URL: http://www.we-online.de/katalog/media/pdf/74457010.pdf
footprint WE-PD4 XL (Inductor, 2-Leads, Body 22,0x15,0mm)
pins: 1, 2

## WE-PD4 XL, 74457012
designator L?, comment 1.20 µH
SMD-Power Inductor WE-PD4, L=1.20 µH; partNo: 74457012; Manufacturer: Würth Elektronik eiSos GmbH & Co.KG; Inductance: 1.20 µH; ComponentLink1Description: Manufacturer; ComponentLink1URL: http://www.we-online.de; Created by: Christin Zierenner; Created Date: June 2009; ComponentLink2Description: Datasheet; ComponentLink2URL: http://www.we-online.de/katalog/media/pdf/74457012.pdf
footprint WE-PD4 XL (Inductor, 2-Leads, Body 22,0x15,0mm)
pins: 1, 2

## WE-PD4 XL, 74457018
designator L?, comment 1.80 µH
SMD-Power Inductor WE-PD4, L=1.80 µH; partNo: 74457018; Manufacturer: Würth Elektronik eiSos GmbH & Co.KG; Inductance: 1.80 µH; ComponentLink1Description: Manufacturer; ComponentLink1URL: http://www.we-online.de; Created by: Christin Zierenner; Created Date: June 2009; ComponentLink2Description: Datasheet; ComponentLink2URL: http://www.we-online.de/katalog/media/pdf/74457018.pdf
footprint WE-PD4 XL (Inductor, 2-Leads, Body 22,0x15,0mm)
pins: 1, 2

## WE-PD4 XL, 74457027
designator L?, comment 2.70 µH
SMD-Power Inductor WE-PD4, L=2.70 µH; partNo: 74457027; Manufacturer: Würth Elektronik eiSos GmbH & Co.KG; Inductance: 2.70 µH; ComponentLink1Description: Manufacturer; ComponentLink1URL: http://www.we-online.de; Created by: Christin Zierenner; Created Date: June 2009; ComponentLink2Description: Datasheet; ComponentLink2URL: http://www.we-online.de/katalog/media/pdf/74457027.pdf
footprint WE-PD4 XL (Inductor, 2-Leads, Body 22,0x15,0mm)
pins: 1, 2

## WE-PD4 XL, 74457033
designator L?, comment 3.30 µH
SMD-Power Inductor WE-PD4, L=3.30 µH; partNo: 74457033; Manufacturer: Würth Elektronik eiSos GmbH & Co.KG; Inductance: 3.30 µH; ComponentLink1Description: Manufacturer; ComponentLink1URL: http://www.we-online.de; Created by: Christin Zierenner; Created Date: June 2009; ComponentLink2Description: Datasheet; ComponentLink2URL: http://www.we-online.de/katalog/media/pdf/74457033.pdf
footprint WE-PD4 XL (Inductor, 2-Leads, Body 22,0x15,0mm)
pins: 1, 2

## WE-PD4 XL, 74457047
designator L?, comment 4.70 µH
SMD-Power Inductor WE-PD4, L=4.70 µH; partNo: 74457047; Manufacturer: Würth Elektronik eiSos GmbH & Co.KG; Inductance: 4.70 µH; ComponentLink1Description: Manufacturer; ComponentLink1URL: http://www.we-online.de; Created by: Christin Zierenner; Created Date: June 2009; ComponentLink2Description: Datasheet; ComponentLink2URL: http://www.we-online.de/katalog/media/pdf/74457047.pdf
footprint WE-PD4 XL (Inductor, 2-Leads, Body 22,0x15,0mm)
pins: 1, 2

## WE-PD4 XL, 74457056
designator L?, comment 5.60 µH
SMD-Power Inductor WE-PD4, L=5.60 µH; partNo: 74457056; Manufacturer: Würth Elektronik eiSos GmbH & Co.KG; Inductance: 5.60 µH; ComponentLink1Description: Manufacturer; ComponentLink1URL: http://www.we-online.de; Created by: Christin Zierenner; Created Date: June 2009; ComponentLink2Description: Datasheet; ComponentLink2URL: http://www.we-online.de/katalog/media/pdf/74457056.pdf
footprint WE-PD4 XL (Inductor, 2-Leads, Body 22,0x15,0mm)
pins: 1, 2

## WE-PD4 XL, 74457068
designator L?, comment 6.80 µH
SMD-Power Inductor WE-PD4, L=6.80 µH; partNo: 74457068; Manufacturer: Würth Elektronik eiSos GmbH & Co.KG; Inductance: 6.80 µH; ComponentLink1Description: Manufacturer; ComponentLink1URL: http://www.we-online.de; Created by: Christin Zierenner; Created Date: June 2009; ComponentLink2Description: Datasheet; ComponentLink2URL: http://www.we-online.de/katalog/media/pdf/74457068.pdf
footprint WE-PD4 XL (Inductor, 2-Leads, Body 22,0x15,0mm)
pins: 1, 2

## WE-PD4 XL, 74457082
designator L?, comment 8.20 µH
SMD-Power Inductor WE-PD4, L=8.20 µH; partNo: 74457082; Manufacturer: Würth Elektronik eiSos GmbH & Co.KG; Inductance: 8.20 µH; ComponentLink1Description: Manufacturer; ComponentLink1URL: http://www.we-online.de; Created by: Christin Zierenner; Created Date: June 2009; ComponentLink2Description: Datasheet; ComponentLink2URL: http://www.we-online.de/katalog/media/pdf/74457082.pdf
footprint WE-PD4 XL (Inductor, 2-Leads, Body 22,0x15,0mm)
pins: 1, 2

## WE-PD4 XL, 74457112
designator L?, comment 12.0 µH
SMD-Power Inductor WE-PD4, L=12.0 µH; partNo: 74457112; Manufacturer: Würth Elektronik eiSos GmbH & Co.KG; Inductance: 12.0 µH; ComponentLink1Description: Manufacturer; ComponentLink1URL: http://www.we-online.de; Created by: Christin Zierenner; Created Date: June 2009; ComponentLink2Description: Datasheet; ComponentLink2URL: http://www.we-online.de/katalog/media/pdf/74457112.pdf
footprint WE-PD4 XL (Inductor, 2-Leads, Body 22,0x15,0mm)
pins: 1, 2

## WE-PD4 XL, 74457115
designator L?, comment 15.0 µH
SMD-Power Inductor WE-PD4, L=15.0 µH; partNo: 74457115; Manufacturer: Würth Elektronik eiSos GmbH & Co.KG; Inductance: 15.0 µH; ComponentLink1Description: Manufacturer; ComponentLink1URL: http://www.we-online.de; Created by: Christin Zierenner; Created Date: June 2009; ComponentLink2Description: Datasheet; ComponentLink2URL: http://www.we-online.de/katalog/media/pdf/74457115.pdf
footprint WE-PD4 XL (Inductor, 2-Leads, Body 22,0x15,0mm)
pins: 1, 2

## WE-PD4 XL, 74457118
designator L?, comment 18.0 µH
SMD-Power Inductor WE-PD4, L=18.0 µH; partNo: 74457118; Manufacturer: Würth Elektronik eiSos GmbH & Co.KG; Inductance: 18.0 µH; ComponentLink1Description: Manufacturer; ComponentLink1URL: http://www.we-online.de; Created by: Christin Zierenner; Created Date: June 2009; ComponentLink2Description: Datasheet; ComponentLink2URL: http://www.we-online.de/katalog/media/pdf/74457118.pdf
footprint WE-PD4 XL (Inductor, 2-Leads, Body 22,0x15,0mm)
pins: 1, 2

## WE-PD4 XL, 74457122
designator L?, comment 22.0 µH
SMD-Power Inductor WE-PD4, L=22.0 µH; partNo: 74457122; Manufacturer: Würth Elektronik eiSos GmbH & Co.KG; Inductance: 22.0 µH; ComponentLink1Description: Manufacturer; ComponentLink1URL: http://www.we-online.de; Created by: Christin Zierenner; Created Date: June 2009; ComponentLink2Description: Datasheet; ComponentLink2URL: http://www.we-online.de/katalog/media/pdf/74457122.pdf
footprint WE-PD4 XL (Inductor, 2-Leads, Body 22,0x15,0mm)
pins: 1, 2

## WE-PD4 XL, 74457127
designator L?, comment 27.0 µH
SMD-Power Inductor WE-PD4, L=27.0 µH; partNo: 74457127; Manufacturer: Würth Elektronik eiSos GmbH & Co.KG; Inductance: 27.0 µH; ComponentLink1Description: Manufacturer; ComponentLink1URL: http://www.we-online.de; Created by: Christin Zierenner; Created Date: June 2009; ComponentLink2Description: Datasheet; ComponentLink2URL: http://www.we-online.de/katalog/media/pdf/74457127.pdf
footprint WE-PD4 XL (Inductor, 2-Leads, Body 22,0x15,0mm)
pins: 1, 2

## WE-PD4 XL, 74457133
designator L?, comment 33.0 µH
SMD-Power Inductor WE-PD4, L=33.0 µH; partNo: 74457133; Manufacturer: Würth Elektronik eiSos GmbH & Co.KG; Inductance: 33.0 µH; ComponentLink1Description: Manufacturer; ComponentLink1URL: http://www.we-online.de; Created by: Christin Zierenner; Created Date: June 2009; ComponentLink2Description: Datasheet; ComponentLink2URL: http://www.we-online.de/katalog/media/pdf/74457133.pdf
footprint WE-PD4 XL (Inductor, 2-Leads, Body 22,0x15,0mm)
pins: 1, 2

## WE-PD4 XL, 74457139
designator L?, comment 39.0 µH
SMD-Power Inductor WE-PD4, L=39.0 µH; partNo: 74457139; Manufacturer: Würth Elektronik eiSos GmbH & Co.KG; Inductance: 39.0 µH; ComponentLink1Description: Manufacturer; ComponentLink1URL: http://www.we-online.de; Created by: Christin Zierenner; Created Date: June 2009; ComponentLink2Description: Datasheet; ComponentLink2URL: http://www.we-online.de/katalog/media/pdf/74457139.pdf
footprint WE-PD4 XL (Inductor, 2-Leads, Body 22,0x15,0mm)
pins: 1, 2

## WE-PD4 XL, 74457147
designator L?, comment 47.0 µH
SMD-Power Inductor WE-PD4, L=47.0 µH; partNo: 74457147; Manufacturer: Würth Elektronik eiSos GmbH & Co.KG; Inductance: 47.0 µH; ComponentLink1Description: Manufacturer; ComponentLink1URL: http://www.we-online.de; Created by: Christin Zierenner; Created Date: June 2009; ComponentLink2Description: Datasheet; ComponentLink2URL: http://www.we-online.de/katalog/media/pdf/74457147.pdf
footprint WE-PD4 XL (Inductor, 2-Leads, Body 22,0x15,0mm)
pins: 1, 2

## WE-PD4 XL, 74457156
designator L?, comment 56.0 µH
SMD-Power Inductor WE-PD4, L=56.0 µH; partNo: 74457156; Manufacturer: Würth Elektronik eiSos GmbH & Co.KG; Inductance: 56.0 µH; ComponentLink1Description: Manufacturer; ComponentLink1URL: http://www.we-online.de; Created by: Christin Zierenner; Created Date: June 2009; ComponentLink2Description: Datasheet; ComponentLink2URL: http://www.we-online.de/katalog/media/pdf/74457156.pdf
footprint WE-PD4 XL (Inductor, 2-Leads, Body 22,0x15,0mm)
pins: 1, 2

## WE-PD4 XL, 74457168
designator L?, comment 68.0 µH
SMD-Power Inductor WE-PD4, L=68.0 µH; partNo: 74457168; Manufacturer: Würth Elektronik eiSos GmbH & Co.KG; Inductance: 68.0 µH; ComponentLink1Description: Manufacturer; ComponentLink1URL: http://www.we-online.de; Created by: Christin Zierenner; Created Date: June 2009; ComponentLink2Description: Datasheet; ComponentLink2URL: http://www.we-online.de/katalog/media/pdf/74457168.pdf
footprint WE-PD4 XL (Inductor, 2-Leads, Body 22,0x15,0mm)
pins: 1, 2

## WE-PD4 XL, 74457182
designator L?, comment 82.0 µH
SMD-Power Inductor WE-PD4, L=82.0 µH; partNo: 74457182; Manufacturer: Würth Elektronik eiSos GmbH & Co.KG; Inductance: 82.0 µH; ComponentLink1Description: Manufacturer; ComponentLink1URL: http://www.we-online.de; Created by: Christin Zierenner; Created Date: June 2009; ComponentLink2Description: Datasheet; ComponentLink2URL: http://www.we-online.de/katalog/media/pdf/74457182.pdf
footprint WE-PD4 XL (Inductor, 2-Leads, Body 22,0x15,0mm)
pins: 1, 2

## WE-PD4 XL, 74457212
designator L?, comment 120 µH
SMD-Power Inductor WE-PD4, L=120 µH; partNo: 74457212; Manufacturer: Würth Elektronik eiSos GmbH & Co.KG; Inductance: 120 µH; ComponentLink1Description: Manufacturer; ComponentLink1URL: http://www.we-online.de; Created by: Christin Zierenner; Created Date: June 2009; ComponentLink2Description: Datasheet; ComponentLink2URL: http://www.we-online.de/katalog/media/pdf/74457212.pdf
footprint WE-PD4 XL (Inductor, 2-Leads, Body 22,0x15,0mm)
pins: 1, 2

## WE-PD4 XL, 74457215
designator L?, comment 150 µH
SMD-Power Inductor WE-PD4, L=150 µH; partNo: 74457215; Manufacturer: Würth Elektronik eiSos GmbH & Co.KG; Inductance: 150 µH; ComponentLink1Description: Manufacturer; ComponentLink1URL: http://www.we-online.de; Created by: Christin Zierenner; Created Date: June 2009; ComponentLink2Description: Datasheet; ComponentLink2URL: http://www.we-online.de/katalog/media/pdf/74457215.pdf
footprint WE-PD4 XL (Inductor, 2-Leads, Body 22,0x15,0mm)
pins: 1, 2

## WE-PD4 XL, 74457218
designator L?, comment 180 µH
SMD-Power Inductor WE-PD4, L=180 µH; partNo: 74457218; Manufacturer: Würth Elektronik eiSos GmbH & Co.KG; Inductance: 180 µH; ComponentLink1Description: Manufacturer; ComponentLink1URL: http://www.we-online.de; Created by: Christin Zierenner; Created Date: June 2009; ComponentLink2Description: Datasheet; ComponentLink2URL: http://www.we-online.de/katalog/media/pdf/74457218.pdf
footprint WE-PD4 XL (Inductor, 2-Leads, Body 22,0x15,0mm)
pins: 1, 2

## WE-PD4 XL, 74457222
designator L?, comment 220 µH
SMD-Power Inductor WE-PD4, L=220 µH; partNo: 74457222; Manufacturer: Würth Elektronik eiSos GmbH & Co.KG; Inductance: 220 µH; ComponentLink1Description: Manufacturer; ComponentLink1URL: http://www.we-online.de; Created by: Christin Zierenner; Created Date: June 2009; ComponentLink2Description: Datasheet; ComponentLink2URL: http://www.we-online.de/katalog/media/pdf/74457222.pdf
footprint WE-PD4 XL (Inductor, 2-Leads, Body 22,0x15,0mm)
pins: 1, 2

## WE-PD4 XL, 74457227
designator L?, comment 270 µH
SMD-Power Inductor WE-PD4, L=270 µH; partNo: 74457227; Manufacturer: Würth Elektronik eiSos GmbH & Co.KG; Inductance: 270 µH; ComponentLink1Description: Manufacturer; ComponentLink1URL: http://www.we-online.de; Created by: Christin Zierenner; Created Date: June 2009; ComponentLink2Description: Datasheet; ComponentLink2URL: http://www.we-online.de/katalog/media/pdf/74457227.pdf
footprint WE-PD4 XL (Inductor, 2-Leads, Body 22,0x15,0mm)
pins: 1, 2

## WE-PD4 XL, 74457230
designator L?, comment 1000 µH
SMD-Power Inductor WE-PD4, L=1000 µH; partNo: 74457230; Manufacturer: Würth Elektronik eiSos GmbH & Co.KG; Inductance: 1000 µH; ComponentLink1Description: Manufacturer; ComponentLink1URL: http://www.we-online.de; Created by: Christin Zierenner; Created Date: June 2009; ComponentLink2Description: Datasheet; ComponentLink2URL: http://www.we-online.de/katalog/media/pdf/74457230.pdf
footprint WE-PD4 XL (Inductor, 2-Leads, Body 22,0x15,0mm)
pins: 1, 2

## WE-PD4 XL, 74457233
designator L?, comment 330 µH
SMD-Power Inductor WE-PD4, L=330 µH; partNo: 74457233; Manufacturer: Würth Elektronik eiSos GmbH & Co.KG; Inductance: 330 µH; ComponentLink1Description: Manufacturer; ComponentLink1URL: http://www.we-online.de; Created by: Christin Zierenner; Created Date: June 2009; ComponentLink2Description: Datasheet; ComponentLink2URL: http://www.we-online.de/katalog/media/pdf/74457233.pdf
footprint WE-PD4 XL (Inductor, 2-Leads, Body 22,0x15,0mm)
pins: 1, 2

## WE-PD4 XL, 74457239
designator L?, comment 390 µH
SMD-Power Inductor WE-PD4, L=390 µH; partNo: 74457239; Manufacturer: Würth Elektronik eiSos GmbH & Co.KG; Inductance: 390 µH; ComponentLink1Description: Manufacturer; ComponentLink1URL: http://www.we-online.de; Created by: Christin Zierenner; Created Date: June 2009; ComponentLink2Description: Datasheet; ComponentLink2URL: http://www.we-online.de/katalog/media/pdf/74457239.pdf
footprint WE-PD4 XL (Inductor, 2-Leads, Body 22,0x15,0mm)
pins: 1, 2

## WE-PD4 XL, 74457247
designator L?, comment 470 µH
SMD-Power Inductor WE-PD4, L=470 µH; partNo: 74457247; Manufacturer: Würth Elektronik eiSos GmbH & Co.KG; Inductance: 470 µH; ComponentLink1Description: Manufacturer; ComponentLink1URL: http://www.we-online.de; Created by: Christin Zierenner; Created Date: June 2009; ComponentLink2Description: Datasheet; ComponentLink2URL: http://www.we-online.de/katalog/media/pdf/74457247.pdf
footprint WE-PD4 XL (Inductor, 2-Leads, Body 22,0x15,0mm)
pins: 1, 2

## WE-PD4 XL, 74457256
designator L?, comment 560 µH
SMD-Power Inductor WE-PD4, L=560 µH; partNo: 74457256; Manufacturer: Würth Elektronik eiSos GmbH & Co.KG; Inductance: 560 µH; ComponentLink1Description: Manufacturer; ComponentLink1URL: http://www.we-online.de; Created by: Christin Zierenner; Created Date: June 2009; ComponentLink2Description: Datasheet; ComponentLink2URL: http://www.we-online.de/katalog/media/pdf/74457256.pdf
footprint WE-PD4 XL (Inductor, 2-Leads, Body 22,0x15,0mm)
pins: 1, 2

## WE-PD4 XL, 74457268
designator L?, comment 680 µH
SMD-Power Inductor WE-PD4, L=680 µH; partNo: 74457268; Manufacturer: Würth Elektronik eiSos GmbH & Co.KG; Inductance: 680 µH; ComponentLink1Description: Manufacturer; ComponentLink1URL: http://www.we-online.de; Created by: Christin Zierenner; Created Date: June 2009; ComponentLink2Description: Datasheet; ComponentLink2URL: http://www.we-online.de/katalog/media/pdf/74457268.pdf
footprint WE-PD4 XL (Inductor, 2-Leads, Body 22,0x15,0mm)
pins: 1, 2

## WE-PD4 XL, 74457282
designator L?, comment 820 µH
SMD-Power Inductor WE-PD4, L=820 µH; partNo: 74457282; Manufacturer: Würth Elektronik eiSos GmbH & Co.KG; Inductance: 820 µH; ComponentLink1Description: Manufacturer; ComponentLink1URL: http://www.we-online.de; Created by: Christin Zierenner; Created Date: June 2009; ComponentLink2Description: Datasheet; ComponentLink2URL: http://www.we-online.de/katalog/media/pdf/74457282.pdf
footprint WE-PD4 XL (Inductor, 2-Leads, Body 22,0x15,0mm)
pins: 1, 2